# Altium schematic symbol library WE-LF.SchLib: 54 symbols
Pins are listed as number, name and electrical type; pins without a type are passive.

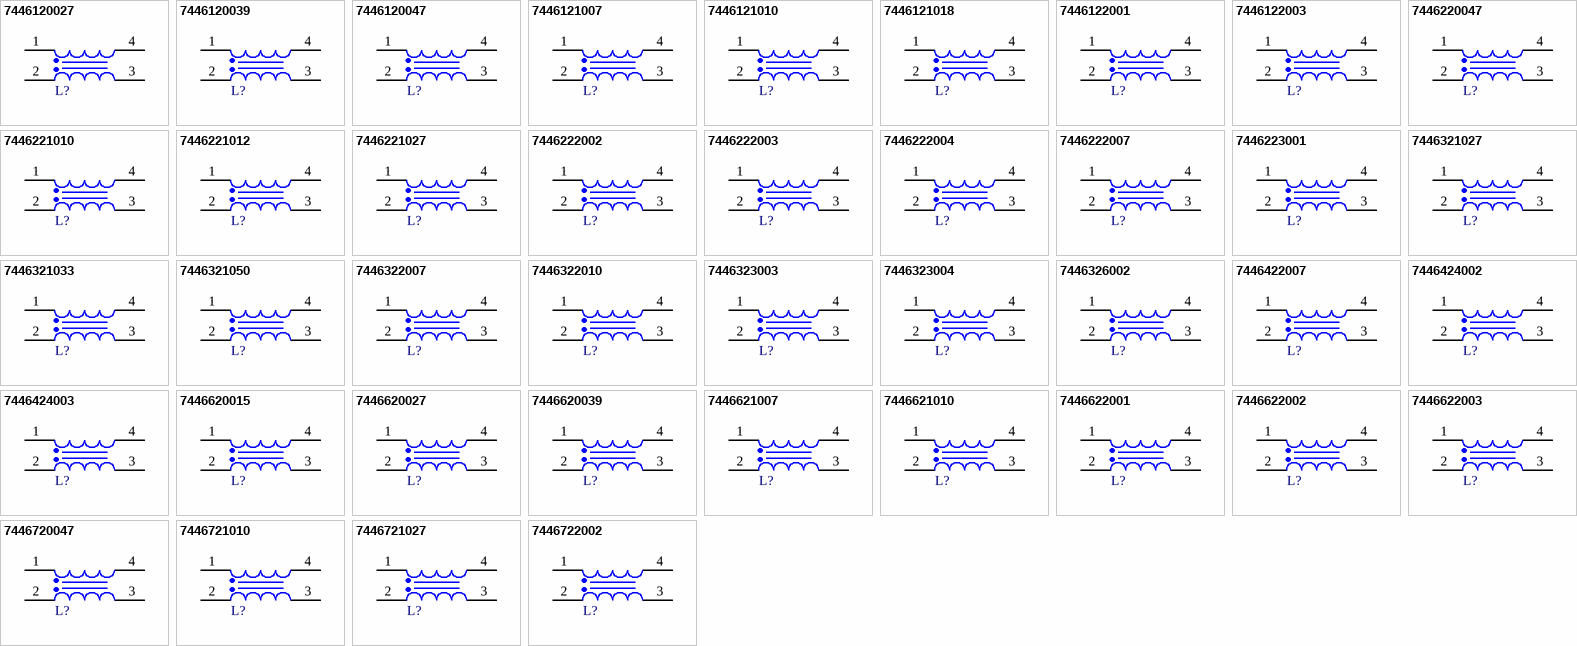
[diagram p0: symbols 7446120027 to 7446722002]

## 7446120027
designator L?, comment 27mH  (value not drawn)
WE-LF THT Common Mode Power Line Choke, Type SV, 27mH, 0.4A, 1.2Ohm; Manufacturer Part Number: 7446120027; Manufacturer: Wurth Elektronik; Case/Size Code: Type SV; Insulation Test Voltage (AC): 1500V; Material: MnZn; Rated Voltage (AC): 250V; Category: Common Mode Chokes; Match Code: WE-LF; ComponentLink1Description: Website Link; ComponentLink1URL: https://www.we-online.com/redexpert/article/7446120027?ad; ComponentLink2Description: Datasheet Link; ComponentLink2URL: https://www.we-online.com/redexpert/spec/7446120027?ad; Mount: Through Hole; Operating Temperature Max: 125°C; Operating Temperature Min: -40°C; Packaging: Tray; Length: 18.5mm; Width: 13.5mm; Height: 20.5mm; DC Resistance Max: 1.2Ohm; Inductance: 27mH; Rated Current: 0.4A
footprint WE-LF_Type SV
pins: 1, 2, 3, 4

## 7446120039
designator L?, comment 39mH  (value not drawn)
WE-LF THT Common Mode Power Line Choke, Type SV, 39mH, 0.4A, 1.7Ohm; Manufacturer Part Number: 7446120039; Manufacturer: Wurth Elektronik; Case/Size Code: Type SV; Insulation Test Voltage (AC): 1500V; Material: MnZn; Rated Voltage (AC): 250V; Category: Common Mode Chokes; Match Code: WE-LF; ComponentLink1Description: Website Link; ComponentLink1URL: https://www.we-online.com/redexpert/article/7446120039?ad; ComponentLink2Description: Datasheet Link; ComponentLink2URL: https://www.we-online.com/redexpert/spec/7446120039?ad; Mount: Through Hole; Operating Temperature Max: 125°C; Operating Temperature Min: -40°C; Packaging: Tray; Length: 18.5mm; Width: 13.5mm; Height: 20.5mm; DC Resistance Max: 1.7Ohm; Inductance: 39mH; Rated Current: 0.4A
footprint WE-LF_Type SV
pins: 1, 2, 3, 4

## 7446120047
designator L?, comment 47mH  (value not drawn)
WE-LF THT Common Mode Power Line Choke, Type SV, 47mH, 0.3A, 2.6Ohm; Manufacturer Part Number: 7446120047; Manufacturer: Wurth Elektronik; Case/Size Code: Type SV; Insulation Test Voltage (AC): 1500V; Material: MnZn; Rated Voltage (AC): 250V; Category: Common Mode Chokes; Match Code: WE-LF; ComponentLink1Description: Website Link; ComponentLink1URL: https://www.we-online.com/redexpert/article/7446120047?ad; ComponentLink2Description: Datasheet Link; ComponentLink2URL: https://www.we-online.com/redexpert/spec/7446120047?ad; Mount: Through Hole; Operating Temperature Max: 125°C; Operating Temperature Min: -40°C; Packaging: Tray; Length: 18.5mm; Width: 13.5mm; Height: 20.5mm; DC Resistance Max: 2.6Ohm; Inductance: 47mH; Rated Current: 0.3A
footprint WE-LF_Type SV
pins: 1, 2, 3, 4

## 7446121007
designator L?, comment 6.8mH  (value not drawn)
WE-LF THT Common Mode Power Line Choke, Type SV, 6.8mH, 1A, 0.3Ohm; Manufacturer Part Number: 7446121007; Manufacturer: Wurth Elektronik; Case/Size Code: Type SV; Insulation Test Voltage (AC): 1500V; Material: MnZn; Rated Voltage (AC): 250V; Category: Common Mode Chokes; Match Code: WE-LF; ComponentLink1Description: Website Link; ComponentLink1URL: https://www.we-online.com/redexpert/article/7446121007?ad; ComponentLink2Description: Datasheet Link; ComponentLink2URL: https://www.we-online.com/redexpert/spec/7446121007?ad; Mount: Through Hole; Operating Temperature Max: 125°C; Operating Temperature Min: -40°C; Packaging: Tray; Length: 18.5mm; Width: 13.5mm; Height: 20.5mm; DC Resistance Max: 0.3Ohm; Inductance: 6.8mH; Rated Current: 1A
footprint WE-LF_Type SV
pins: 1, 2, 3, 4

## 7446121010
designator L?, comment 10mH  (value not drawn)
WE-LF THT Common Mode Power Line Choke, Type SV, 10mH, 0.7A, 0.55Ohm; Manufacturer Part Number: 7446121010; Manufacturer: Wurth Elektronik; Case/Size Code: Type SV; Insulation Test Voltage (AC): 1500V; Material: MnZn; Rated Voltage (AC): 250V; Category: Common Mode Chokes; Match Code: WE-LF; ComponentLink1Description: Website Link; ComponentLink1URL: https://www.we-online.com/redexpert/article/7446121010?ad; ComponentLink2Description: Datasheet Link; ComponentLink2URL: https://www.we-online.com/redexpert/spec/7446121010?ad; Mount: Through Hole; Operating Temperature Max: 125°C; Operating Temperature Min: -40°C; Packaging: Tray; Length: 18.5mm; Width: 13.5mm; Height: 20.5mm; DC Resistance Max: 0.55Ohm; Inductance: 10mH; Rated Current: 0.7A
footprint WE-LF_Type SV
pins: 1, 2, 3, 4

## 7446121018
designator L?, comment 18mH  (value not drawn)
WE-LF THT Common Mode Power Line Choke, Type SV, 18mH, 0.5A, 0.75Ohm; Manufacturer Part Number: 7446121018; Manufacturer: Wurth Elektronik; Case/Size Code: Type SV; Insulation Test Voltage (AC): 1500V; Material: MnZn; Rated Voltage (AC): 250V; Category: Common Mode Chokes; Match Code: WE-LF; ComponentLink1Description: Website Link; ComponentLink1URL: https://www.we-online.com/redexpert/article/7446121018?ad; ComponentLink2Description: Datasheet Link; ComponentLink2URL: https://www.we-online.com/redexpert/spec/7446121018?ad; Mount: Through Hole; Operating Temperature Max: 125°C; Operating Temperature Min: -40°C; Packaging: Tray; Length: 18.5mm; Width: 13.5mm; Height: 20.5mm; DC Resistance Max: 0.75Ohm; Inductance: 18mH; Rated Current: 0.5A
footprint WE-LF_Type SV
pins: 1, 2, 3, 4

## 7446122001
designator L?, comment 1mH  (value not drawn)
WE-LF THT Common Mode Power Line Choke, Type SV, 1mH, 2A, 0.06Ohm; Manufacturer Part Number: 7446122001; Manufacturer: Wurth Elektronik; Case/Size Code: Type SV; Insulation Test Voltage (AC): 1500V; Material: MnZn; Rated Voltage (AC): 250V; Category: Common Mode Chokes; Match Code: WE-LF; ComponentLink1Description: Website Link; ComponentLink1URL: https://www.we-online.com/redexpert/article/7446122001?ad; ComponentLink2Description: Datasheet Link; ComponentLink2URL: https://www.we-online.com/redexpert/spec/7446122001?ad; Mount: Through Hole; Operating Temperature Max: 125°C; Operating Temperature Min: -40°C; Packaging: Tray; Length: 18.5mm; Width: 13.5mm; Height: 20.5mm; DC Resistance Max: 0.06Ohm; Inductance: 1mH; Rated Current: 2A
footprint WE-LF_Type SV
pins: 1, 2, 3, 4

## 7446122003
designator L?, comment 3.3mH  (value not drawn)
WE-LF THT Common Mode Power Line Choke, Type SV, 3.3mH, 1.5A, 0.15Ohm; Manufacturer Part Number: 7446122003; Manufacturer: Wurth Elektronik; Case/Size Code: Type SV; Insulation Test Voltage (AC): 1500V; Material: MnZn; Rated Voltage (AC): 250V; Category: Common Mode Chokes; Match Code: WE-LF; ComponentLink1Description: Website Link; ComponentLink1URL: https://www.we-online.com/redexpert/article/7446122003?ad; ComponentLink2Description: Datasheet Link; ComponentLink2URL: https://www.we-online.com/redexpert/spec/7446122003?ad; Mount: Through Hole; Operating Temperature Max: 125°C; Operating Temperature Min: -40°C; Packaging: Tray; Length: 18.5mm; Width: 13.5mm; Height: 20.5mm; DC Resistance Max: 0.15Ohm; Inductance: 3.3mH; Rated Current: 1.5A
footprint WE-LF_Type SV
pins: 1, 2, 3, 4

## 7446220047
designator L?, comment 47mH  (value not drawn)
WE-LF THT Common Mode Power Line Choke, Type MV, 47mH, 0.4A, 1.6Ohm; Manufacturer Part Number: 7446220047; Manufacturer: Wurth Elektronik; Case/Size Code: Type MV; Insulation Test Voltage (AC): 1500V; Material: MnZn; Rated Voltage (AC): 250V; Category: Common Mode Chokes; Match Code: WE-LF; ComponentLink1Description: Website Link; ComponentLink1URL: https://www.we-online.com/redexpert/article/7446220047?ad; ComponentLink2Description: Datasheet Link; ComponentLink2URL: https://www.we-online.com/redexpert/spec/7446220047?ad; Mount: Through Hole; Operating Temperature Max: 125°C; Operating Temperature Min: -40°C; Packaging: Tray; Length: 23.5mm; Width: 16mm; Height: 25.5mm; DC Resistance Max: 1.6Ohm; Inductance: 47mH; Rated Current: 0.4A
footprint WE-LF_Type MV
pins: 1, 2, 3, 4

## 7446221010
designator L?, comment 10mH  (value not drawn)
WE-LF THT Common Mode Power Line Choke, Type MV, 10mH, 1.3A, 0.25Ohm; Manufacturer Part Number: 7446221010; Manufacturer: Wurth Elektronik; Case/Size Code: Type MV; Insulation Test Voltage (AC): 1500V; Material: MnZn; Rated Voltage (AC): 250V; Category: Common Mode Chokes; Match Code: WE-LF; ComponentLink1Description: Website Link; ComponentLink1URL: https://www.we-online.com/redexpert/article/7446221010?ad; ComponentLink2Description: Datasheet Link; ComponentLink2URL: https://www.we-online.com/redexpert/spec/7446221010?ad; Mount: Through Hole; Operating Temperature Max: 125°C; Operating Temperature Min: -40°C; Packaging: Tray; Length: 23.5mm; Width: 16mm; Height: 25.5mm; DC Resistance Max: 0.25Ohm; Inductance: 10mH; Rated Current: 1.3A
footprint WE-LF_Type MV
pins: 1, 2, 3, 4

## 7446221012
designator L?, comment 12mH  (value not drawn)
WE-LF THT Common Mode Power Line Choke, Type MV, 12mH, 1.2A, 0.28Ohm; Manufacturer Part Number: 7446221012; Manufacturer: Wurth Elektronik; Case/Size Code: Type MV; Insulation Test Voltage (AC): 1500V; Material: MnZn; Rated Voltage (AC): 250V; Category: Common Mode Chokes; Match Code: WE-LF; ComponentLink1Description: Website Link; ComponentLink1URL: https://www.we-online.com/redexpert/article/7446221012?ad; ComponentLink2Description: Datasheet Link; ComponentLink2URL: https://www.we-online.com/redexpert/spec/7446221012?ad; Mount: Through Hole; Operating Temperature Max: 125°C; Operating Temperature Min: -40°C; Packaging: Tray; Length: 23.5mm; Width: 16mm; Height: 25.5mm; DC Resistance Max: 0.28Ohm; Inductance: 12mH; Rated Current: 1.2A
footprint WE-LF_Type MV
pins: 1, 2, 3, 4

## 7446221027
designator L?, comment 27mH  (value not drawn)
WE-LF THT Common Mode Power Line Choke, Type MV, 27mH, 0.6A, 0.7Ohm; Manufacturer Part Number: 7446221027; Manufacturer: Wurth Elektronik; Case/Size Code: Type MV; Insulation Test Voltage (AC): 1500V; Material: MnZn; Rated Voltage (AC): 250V; Category: Common Mode Chokes; Match Code: WE-LF; ComponentLink1Description: Website Link; ComponentLink1URL: https://www.we-online.com/redexpert/article/7446221027?ad; ComponentLink2Description: Datasheet Link; ComponentLink2URL: https://www.we-online.com/redexpert/spec/7446221027?ad; Mount: Through Hole; Operating Temperature Max: 125°C; Operating Temperature Min: -40°C; Packaging: Tray; Length: 23.5mm; Width: 16mm; Height: 25.5mm; DC Resistance Max: 0.7Ohm; Inductance: 27mH; Rated Current: 0.6A
footprint WE-LF_Type MV
pins: 1, 2, 3, 4

## 7446222002
designator L?, comment 2.2mH  (value not drawn)
WE-LF THT Common Mode Power Line Choke, Type MV, 2.2mH, 3A, 0.06Ohm; Manufacturer Part Number: 7446222002; Manufacturer: Wurth Elektronik; Case/Size Code: Type MV; Insulation Test Voltage (AC): 1500V; Material: MnZn; Rated Voltage (AC): 250V; Category: Common Mode Chokes; Match Code: WE-LF; ComponentLink1Description: Website Link; ComponentLink1URL: https://www.we-online.com/redexpert/article/7446222002?ad; ComponentLink2Description: Datasheet Link; ComponentLink2URL: https://www.we-online.com/redexpert/spec/7446222002?ad; Mount: Through Hole; Operating Temperature Max: 125°C; Operating Temperature Min: -40°C; Packaging: Tray; Length: 23.5mm; Width: 16mm; Height: 25.5mm; DC Resistance Max: 0.06Ohm; Inductance: 2.2mH; Rated Current: 3A
footprint WE-LF_Type MV
pins: 1, 2, 3, 4

## 7446222003
designator L?, comment 3.3mH  (value not drawn)
WE-LF THT Common Mode Power Line Choke, Type MV, 3.3mH, 2A, 0.075Ohm; Manufacturer Part Number: 7446222003; Manufacturer: Wurth Elektronik; Case/Size Code: Type MV; Insulation Test Voltage (AC): 1500V; Material: MnZn; Rated Voltage (AC): 250V; Category: Common Mode Chokes; Match Code: WE-LF; ComponentLink1Description: Website Link; ComponentLink1URL: https://www.we-online.com/redexpert/article/7446222003?ad; ComponentLink2Description: Datasheet Link; ComponentLink2URL: https://www.we-online.com/redexpert/spec/7446222003?ad; Mount: Through Hole; Operating Temperature Max: 125°C; Operating Temperature Min: -40°C; Packaging: Tray; Length: 23.5mm; Width: 16mm; Height: 25.5mm; DC Resistance Max: 0.075Ohm; Inductance: 3.3mH; Rated Current: 2A
footprint WE-LF_Type MV
pins: 1, 2, 3, 4

## 7446222004
designator L?, comment 4.2mH  (value not drawn)
WE-LF THT Common Mode Power Line Choke, Type MV, 4.2mH, 2A, 0.12Ohm; Manufacturer Part Number: 7446222004; Manufacturer: Wurth Elektronik; Case/Size Code: Type MV; Insulation Test Voltage (AC): 1500V; Material: MnZn; Rated Voltage (AC): 250V; Category: Common Mode Chokes; Match Code: WE-LF; ComponentLink1Description: Website Link; ComponentLink1URL: https://www.we-online.com/redexpert/article/7446222004?ad; ComponentLink2Description: Datasheet Link; ComponentLink2URL: https://www.we-online.com/redexpert/spec/7446222004?ad; Mount: Through Hole; Operating Temperature Max: 125°C; Operating Temperature Min: -40°C; Packaging: Tray; Length: 23.5mm; Width: 16mm; Height: 25.5mm; DC Resistance Max: 0.12Ohm; Inductance: 4.2mH; Rated Current: 2A
footprint WE-LF_Type MV
pins: 1, 2, 3, 4

## 7446222007
designator L?, comment 6.8mH  (value not drawn)
WE-LF THT Common Mode Power Line Choke, Type MV, 6.8mH, 1.5A, 0.2Ohm; Manufacturer Part Number: 7446222007; Manufacturer: Wurth Elektronik; Case/Size Code: Type MV; Insulation Test Voltage (AC): 1500V; Material: MnZn; Rated Voltage (AC): 250V; Category: Common Mode Chokes; Match Code: WE-LF; ComponentLink1Description: Website Link; ComponentLink1URL: https://www.we-online.com/redexpert/article/7446222007?ad; ComponentLink2Description: Datasheet Link; ComponentLink2URL: https://www.we-online.com/redexpert/spec/7446222007?ad; Mount: Through Hole; Operating Temperature Max: 125°C; Operating Temperature Min: -40°C; Packaging: Tray; Length: 23.5mm; Width: 16mm; Height: 25.5mm; DC Resistance Max: 0.2Ohm; Inductance: 6.8mH; Rated Current: 1.5A
footprint WE-LF_Type MV
pins: 1, 2, 3, 4

## 7446223001
designator L?, comment 1mH  (value not drawn)
WE-LF THT Common Mode Power Line Choke, Type MV, 1mH, 3A, 0.04Ohm; Manufacturer Part Number: 7446223001; Manufacturer: Wurth Elektronik; Case/Size Code: Type MV; Insulation Test Voltage (AC): 1500V; Material: MnZn; Rated Voltage (AC): 250V; Category: Common Mode Chokes; Match Code: WE-LF; ComponentLink1Description: Website Link; ComponentLink1URL: https://www.we-online.com/redexpert/article/7446223001?ad; ComponentLink2Description: Datasheet Link; ComponentLink2URL: https://www.we-online.com/redexpert/spec/7446223001?ad; Mount: Through Hole; Operating Temperature Max: 125°C; Operating Temperature Min: -40°C; Packaging: Tray; Length: 23.5mm; Width: 16mm; Height: 25.5mm; DC Resistance Max: 0.04Ohm; Inductance: 1mH; Rated Current: 3A
footprint WE-LF_Type MV
pins: 1, 2, 3, 4

## 7446321027
designator L?, comment 27mH  (value not drawn)
WE-LF THT Common Mode Power Line Choke, Type LV, 27mH, 1A, 0.64Ohm; Manufacturer Part Number: 7446321027; Manufacturer: Wurth Elektronik; Case/Size Code: Type LV; Insulation Test Voltage (AC): 1500V; Material: MnZn; Rated Voltage (AC): 250V; Category: Common Mode Chokes; Match Code: WE-LF; ComponentLink1Description: Website Link; ComponentLink1URL: https://www.we-online.com/redexpert/article/7446321027?ad; ComponentLink2Description: Datasheet Link; ComponentLink2URL: https://www.we-online.com/redexpert/spec/7446321027?ad; Mount: Through Hole; Operating Temperature Max: 125°C; Operating Temperature Min: -40°C; Packaging: Tray; Length: 26.5mm; Width: 18.48mm; Height: 30.5mm; DC Resistance Max: 0.64Ohm; Inductance: 27mH; Rated Current: 1A
footprint WE-LF_Type LV
pins: 1, 2, 3, 4

## 7446321033
designator L?, comment 33mH  (value not drawn)
WE-LF THT Common Mode Power Line Choke, Type LV, 33mH, 0.8A, 0.85Ohm; Manufacturer Part Number: 7446321033; Manufacturer: Wurth Elektronik; Case/Size Code: Type LV; Insulation Test Voltage (AC): 1500V; Material: MnZn; Rated Voltage (AC): 250V; Category: Common Mode Chokes; Match Code: WE-LF; ComponentLink1Description: Website Link; ComponentLink1URL: https://www.we-online.com/redexpert/article/7446321033?ad; ComponentLink2Description: Datasheet Link; ComponentLink2URL: https://www.we-online.com/redexpert/spec/7446321033?ad; Mount: Through Hole; Operating Temperature Max: 125°C; Operating Temperature Min: -40°C; Packaging: Tray; Length: 26.5mm; Width: 18.48mm; Height: 30.5mm; DC Resistance Max: 0.85Ohm; Inductance: 33mH; Rated Current: 0.8A
footprint WE-LF_Type LV
pins: 1, 2, 3, 4

## 7446321050
designator L?, comment 50mH  (value not drawn)
WE-LF THT Common Mode Power Line Choke, Type LV, 50mH, 0.6A, 1.2Ohm; Manufacturer Part Number: 7446321050; Manufacturer: Wurth Elektronik; Case/Size Code: Type LV; Insulation Test Voltage (AC): 1500V; Material: MnZn; Rated Voltage (AC): 250V; Category: Common Mode Chokes; Match Code: WE-LF; ComponentLink1Description: Website Link; ComponentLink1URL: https://www.we-online.com/redexpert/article/7446321050?ad; ComponentLink2Description: Datasheet Link; ComponentLink2URL: https://www.we-online.com/redexpert/spec/7446321050?ad; Mount: Through Hole; Operating Temperature Max: 125°C; Operating Temperature Min: -40°C; Packaging: Tray; Length: 26.5mm; Width: 18.48mm; Height: 30.5mm; DC Resistance Max: 1.2Ohm; Inductance: 50mH; Rated Current: 0.6A
footprint WE-LF_Type LV
pins: 1, 2, 3, 4

## 7446322007
designator L?, comment 6.8mH  (value not drawn)
WE-LF THT Common Mode Power Line Choke, Type LV, 6.8mH, 1.9A, 0.16Ohm; Manufacturer Part Number: 7446322007; Manufacturer: Wurth Elektronik; Case/Size Code: Type LV; Insulation Test Voltage (AC): 1500V; Material: MnZn; Rated Voltage (AC): 250V; Category: Common Mode Chokes; Match Code: WE-LF; ComponentLink1Description: Website Link; ComponentLink1URL: https://www.we-online.com/redexpert/article/7446322007?ad; ComponentLink2Description: Datasheet Link; ComponentLink2URL: https://www.we-online.com/redexpert/spec/7446322007?ad; Mount: Through Hole; Operating Temperature Max: 125°C; Operating Temperature Min: -40°C; Packaging: Tray; Length: 26.5mm; Width: 18.48mm; Height: 30.5mm; DC Resistance Max: 0.16Ohm; Inductance: 6.8mH; Rated Current: 1.9A
footprint WE-LF_Type LV
pins: 1, 2, 3, 4

## 7446322010
designator L?, comment 10mH  (value not drawn)
WE-LF THT Common Mode Power Line Choke, Type LV, 10mH, 1.9A, 0.18Ohm; Manufacturer Part Number: 7446322010; Manufacturer: Wurth Elektronik; Case/Size Code: Type LV; Insulation Test Voltage (AC): 1500V; Material: MnZn; Rated Voltage (AC): 250V; Category: Common Mode Chokes; Match Code: WE-LF; ComponentLink1Description: Website Link; ComponentLink1URL: https://www.we-online.com/redexpert/article/7446322010?ad; ComponentLink2Description: Datasheet Link; ComponentLink2URL: https://www.we-online.com/redexpert/spec/7446322010?ad; Mount: Through Hole; Operating Temperature Max: 125°C; Operating Temperature Min: -40°C; Packaging: Tray; Length: 26.5mm; Width: 18.48mm; Height: 30.5mm; DC Resistance Max: 0.18Ohm; Inductance: 10mH; Rated Current: 1.9A
footprint WE-LF_Type LV
pins: 1, 2, 3, 4

## 7446323003
designator L?, comment 2.7mH  (value not drawn)
WE-LF THT Common Mode Power Line Choke, Type LV, 2.7mH, 3A, 0.06Ohm; Manufacturer Part Number: 7446323003; Manufacturer: Wurth Elektronik; Case/Size Code: Type LV; Insulation Test Voltage (AC): 1500V; Material: MnZn; Rated Voltage (AC): 250V; Category: Common Mode Chokes; Match Code: WE-LF; ComponentLink1Description: Website Link; ComponentLink1URL: https://www.we-online.com/redexpert/article/7446323003?ad; ComponentLink2Description: Datasheet Link; ComponentLink2URL: https://www.we-online.com/redexpert/spec/7446323003?ad; Mount: Through Hole; Operating Temperature Max: 125°C; Operating Temperature Min: -40°C; Packaging: Tray; Length: 26.5mm; Width: 18.48mm; Height: 30.5mm; DC Resistance Max: 0.06Ohm; Inductance: 2.7mH; Rated Current: 3A
footprint WE-LF_Type LV
pins: 1, 2, 3, 4

## 7446323004
designator L?, comment 4mH  (value not drawn)
WE-LF THT Common Mode Power Line Choke, Type LV, 4mH, 3A, 0.07Ohm; Manufacturer Part Number: 7446323004; Manufacturer: Wurth Elektronik; Case/Size Code: Type LV; Insulation Test Voltage (AC): 1500V; Material: MnZn; Rated Voltage (AC): 250V; Category: Common Mode Chokes; Match Code: WE-LF; ComponentLink1Description: Website Link; ComponentLink1URL: https://www.we-online.com/redexpert/article/7446323004?ad; ComponentLink2Description: Datasheet Link; ComponentLink2URL: https://www.we-online.com/redexpert/spec/7446323004?ad; Mount: Through Hole; Operating Temperature Max: 125°C; Operating Temperature Min: -40°C; Packaging: Tray; Length: 26.5mm; Width: 18.48mm; Height: 30.5mm; DC Resistance Max: 0.07Ohm; Inductance: 4mH; Rated Current: 3A
footprint WE-LF_Type LV
pins: 1, 2, 3, 4

## 7446326002
designator L?, comment 1.8mH  (value not drawn)
WE-LF THT Common Mode Power Line Choke, Type LV, 1.8mH, 6A, 0.023Ohm; Manufacturer Part Number: 7446326002; Manufacturer: Wurth Elektronik; Case/Size Code: Type LV; Insulation Test Voltage (AC): 1500V; Material: MnZn; Rated Voltage (AC): 250V; Category: Common Mode Chokes; Match Code: WE-LF; ComponentLink1Description: Website Link; ComponentLink1URL: https://www.we-online.com/redexpert/article/7446326002?ad; ComponentLink2Description: Datasheet Link; ComponentLink2URL: https://www.we-online.com/redexpert/spec/7446326002?ad; Mount: Through Hole; Operating Temperature Max: 125°C; Operating Temperature Min: -40°C; Packaging: Tray; Length: 26.5mm; Width: 18.48mm; Height: 30.5mm; DC Resistance Max: 0.023Ohm; Inductance: 1.8mH; Rated Current: 6A
footprint WE-LF_Type LV
pins: 1, 2, 3, 4

## 7446422007
designator L?, comment 6.8mH  (value not drawn)
WE-LF THT Common Mode Power Line Choke, Type XV, 6.8mH, 2.5A, 0.12Ohm; Manufacturer Part Number: 7446422007; Manufacturer: Wurth Elektronik; Case/Size Code: Type XV; Insulation Test Voltage (AC): 1500V; Material: MnZn; Rated Voltage (AC): 250V; Category: Common Mode Chokes; Match Code: WE-LF; ComponentLink1Description: Website Link; ComponentLink1URL: https://www.we-online.com/redexpert/article/7446422007?ad; ComponentLink2Description: Datasheet Link; ComponentLink2URL: https://www.we-online.com/redexpert/spec/7446422007?ad; Mount: Through Hole; Operating Temperature Max: 125°C; Operating Temperature Min: -40°C; Packaging: Tray; Length: 32.5mm; Width: 21.5mm; Height: 35.5mm; DC Resistance Max: 0.12Ohm; Inductance: 6.8mH; Rated Current: 2.5A
footprint WE-LF_Type XV
pins: 1, 2, 3, 4

## 7446424002
designator L?, comment 2.2mH  (value not drawn)
WE-LF THT Common Mode Power Line Choke, Type XV, 2.2mH, 4.3A, 0.038Ohm; Manufacturer Part Number: 7446424002; Manufacturer: Wurth Elektronik; Case/Size Code: Type XV; Insulation Test Voltage (AC): 1500V; Material: MnZn; Rated Voltage (AC): 250V; Category: Common Mode Chokes; Match Code: WE-LF; ComponentLink1Description: Website Link; ComponentLink1URL: https://www.we-online.com/redexpert/article/7446424002?ad; ComponentLink2Description: Datasheet Link; ComponentLink2URL: https://www.we-online.com/redexpert/spec/7446424002?ad; Mount: Through Hole; Operating Temperature Max: 125°C; Operating Temperature Min: -40°C; Packaging: Tray; Length: 32.5mm; Width: 21.5mm; Height: 35.5mm; DC Resistance Max: 0.038Ohm; Inductance: 2.2mH; Rated Current: 4.3A
footprint WE-LF_Type XV
pins: 1, 2, 3, 4

## 7446424003
designator L?, comment 3.3mH  (value not drawn)
WE-LF THT Common Mode Power Line Choke, Type XV, 3.3mH, 4A, 0.065Ohm; Manufacturer Part Number: 7446424003; Manufacturer: Wurth Elektronik; Case/Size Code: Type XV; Insulation Test Voltage (AC): 1500V; Material: MnZn; Rated Voltage (AC): 250V; Category: Common Mode Chokes; Match Code: WE-LF; ComponentLink1Description: Website Link; ComponentLink1URL: https://www.we-online.com/redexpert/article/7446424003?ad; ComponentLink2Description: Datasheet Link; ComponentLink2URL: https://www.we-online.com/redexpert/spec/7446424003?ad; Mount: Through Hole; Operating Temperature Max: 125°C; Operating Temperature Min: -40°C; Packaging: Tray; Length: 32.5mm; Width: 21.5mm; Height: 35.5mm; DC Resistance Max: 0.065Ohm; Inductance: 3.3mH; Rated Current: 4A
footprint WE-LF_Type XV
pins: 1, 2, 3, 4

## 7446620015
designator L?, comment 15mH  (value not drawn)
WE-LF THT Common Mode Power Line Choke, Type SH, 15mH, 0.5A, 0.83Ohm; Manufacturer Part Number: 7446620015; Manufacturer: Wurth Elektronik; Case/Size Code: Type SH; Insulation Test Voltage (AC): 1500V; Material: MnZn; Rated Voltage (AC): 250V; Category: Common Mode Chokes; Match Code: WE-LF; ComponentLink1Description: Website Link; ComponentLink1URL: https://www.we-online.com/redexpert/article/7446620015?ad; ComponentLink2Description: Datasheet Link; ComponentLink2URL: https://www.we-online.com/redexpert/spec/7446620015?ad; Mount: Through Hole; Operating Temperature Max: 125°C; Operating Temperature Min: -40°C; Packaging: Tray; Length: 18mm; Width: 18mm; Height: 13mm; DC Resistance Max: 0.83Ohm; Inductance: 15mH; Rated Current: 0.5A
footprint WE-LF_Type SH
pins: 1, 2, 3, 4

## 7446620027
designator L?, comment 27mH  (value not drawn)
WE-LF THT Common Mode Power Line Choke, Type SH, 27mH, 0.4A, 1.2Ohm; Manufacturer Part Number: 7446620027; Manufacturer: Wurth Elektronik; Case/Size Code: Type SH; Insulation Test Voltage (AC): 1500V; Material: MnZn; Rated Voltage (AC): 250V; Category: Common Mode Chokes; Match Code: WE-LF; ComponentLink1Description: Website Link; ComponentLink1URL: https://www.we-online.com/redexpert/article/7446620027?ad; ComponentLink2Description: Datasheet Link; ComponentLink2URL: https://www.we-online.com/redexpert/spec/7446620027?ad; Mount: Through Hole; Operating Temperature Max: 125°C; Operating Temperature Min: -40°C; Packaging: Tray; Length: 18mm; Width: 18mm; Height: 13mm; DC Resistance Max: 1.2Ohm; Inductance: 27mH; Rated Current: 0.4A
footprint WE-LF_Type SH
pins: 1, 2, 3, 4

## 7446620039
designator L?, comment 39mH  (value not drawn)
WE-LF THT Common Mode Power Line Choke, Type SH, 39mH, 0.4A, 1.7Ohm; Manufacturer Part Number: 7446620039; Manufacturer: Wurth Elektronik; Case/Size Code: Type SH; Insulation Test Voltage (AC): 1500V; Material: MnZn; Rated Voltage (AC): 250V; Category: Common Mode Chokes; Match Code: WE-LF; ComponentLink1Description: Website Link; ComponentLink1URL: https://www.we-online.com/redexpert/article/7446620039?ad; ComponentLink2Description: Datasheet Link; ComponentLink2URL: https://www.we-online.com/redexpert/spec/7446620039?ad; Mount: Through Hole; Operating Temperature Max: 125°C; Operating Temperature Min: -40°C; Packaging: Tray; Length: 18mm; Width: 18mm; Height: 13mm; DC Resistance Max: 1.7Ohm; Inductance: 39mH; Rated Current: 0.4A
footprint WE-LF_Type SH
pins: 1, 2, 3, 4

## 7446621007
designator L?, comment 6.8mH  (value not drawn)
WE-LF THT Common Mode Power Line Choke, Type SH, 6.8mH, 1A, 0.3Ohm; Manufacturer Part Number: 7446621007; Manufacturer: Wurth Elektronik; Case/Size Code: Type SH; Insulation Test Voltage (AC): 1500V; Material: MnZn; Rated Voltage (AC): 250V; Category: Common Mode Chokes; Match Code: WE-LF; ComponentLink1Description: Website Link; ComponentLink1URL: https://www.we-online.com/redexpert/article/7446621007?ad; ComponentLink2Description: Datasheet Link; ComponentLink2URL: https://www.we-online.com/redexpert/spec/7446621007?ad; Mount: Through Hole; Operating Temperature Max: 125°C; Operating Temperature Min: -40°C; Packaging: Tray; Length: 18mm; Width: 18mm; Height: 13mm; DC Resistance Max: 0.3Ohm; Inductance: 6.8mH; Rated Current: 1A
footprint WE-LF_Type SH
pins: 1, 2, 3, 4

## 7446621010
designator L?, comment 10mH  (value not drawn)
WE-LF THT Common Mode Power Line Choke, Type SH, 10mH, 0.7A, 0.55Ohm; Manufacturer Part Number: 7446621010; Manufacturer: Wurth Elektronik; Case/Size Code: Type SH; Insulation Test Voltage (AC): 1500V; Material: MnZn; Rated Voltage (AC): 250V; Category: Common Mode Chokes; Match Code: WE-LF; ComponentLink1Description: Website Link; ComponentLink1URL: https://www.we-online.com/redexpert/article/7446621010?ad; ComponentLink2Description: Datasheet Link; ComponentLink2URL: https://www.we-online.com/redexpert/spec/7446621010?ad; Mount: Through Hole; Operating Temperature Max: 125°C; Operating Temperature Min: -40°C; Packaging: Tray; Length: 18mm; Width: 18mm; Height: 13mm; DC Resistance Max: 0.55Ohm; Inductance: 10mH; Rated Current: 0.7A
footprint WE-LF_Type SH
pins: 1, 2, 3, 4

## 7446622001
designator L?, comment 1mH  (value not drawn)
WE-LF THT Common Mode Power Line Choke, Type SH, 1mH, 2A, 0.06Ohm; Manufacturer Part Number: 7446622001; Manufacturer: Wurth Elektronik; Case/Size Code: Type SH; Insulation Test Voltage (AC): 1500V; Material: MnZn; Rated Voltage (AC): 250V; Category: Common Mode Chokes; Match Code: WE-LF; ComponentLink1Description: Website Link; ComponentLink1URL: https://www.we-online.com/redexpert/article/7446622001?ad; ComponentLink2Description: Datasheet Link; ComponentLink2URL: https://www.we-online.com/redexpert/spec/7446622001?ad; Mount: Through Hole; Operating Temperature Max: 125°C; Operating Temperature Min: -40°C; Packaging: Tray; Length: 18mm; Width: 18mm; Height: 13mm; DC Resistance Max: 0.06Ohm; Inductance: 1mH; Rated Current: 2A
footprint WE-LF_Type SH
pins: 1, 2, 3, 4

## 7446622002
designator L?, comment 2.2mH  (value not drawn)
WE-LF THT Common Mode Power Line Choke, Type SH, 2.2mH, 2A, 0.1Ohm; Manufacturer Part Number: 7446622002; Manufacturer: Wurth Elektronik; Case/Size Code: Type SH; Insulation Test Voltage (AC): 1500V; Material: MnZn; Rated Voltage (AC): 250V; Category: Common Mode Chokes; Match Code: WE-LF; ComponentLink1Description: Website Link; ComponentLink1URL: https://www.we-online.com/redexpert/article/7446622002?ad; ComponentLink2Description: Datasheet Link; ComponentLink2URL: https://www.we-online.com/redexpert/spec/7446622002?ad; Mount: Through Hole; Operating Temperature Max: 125°C; Operating Temperature Min: -40°C; Packaging: Tray; Length: 18mm; Width: 18mm; Height: 13mm; DC Resistance Max: 0.1Ohm; Inductance: 2.2mH; Rated Current: 2A
footprint WE-LF_Type SH
pins: 1, 2, 3, 4

## 7446622003
designator L?, comment 3.3mH  (value not drawn)
WE-LF THT Common Mode Power Line Choke, Type SH, 3.3mH, 1.5A, 0.15Ohm; Manufacturer Part Number: 7446622003; Manufacturer: Wurth Elektronik; Case/Size Code: Type SH; Insulation Test Voltage (AC): 1500V; Material: MnZn; Rated Voltage (AC): 250V; Category: Common Mode Chokes; Match Code: WE-LF; ComponentLink1Description: Website Link; ComponentLink1URL: https://www.we-online.com/redexpert/article/7446622003?ad; ComponentLink2Description: Datasheet Link; ComponentLink2URL: https://www.we-online.com/redexpert/spec/7446622003?ad; Mount: Through Hole; Operating Temperature Max: 125°C; Operating Temperature Min: -40°C; Packaging: Tray; Length: 18mm; Width: 18mm; Height: 13mm; DC Resistance Max: 0.15Ohm; Inductance: 3.3mH; Rated Current: 1.5A
footprint WE-LF_Type SH
pins: 1, 2, 3, 4

## 7446720047
designator L?, comment 47mH  (value not drawn)
WE-LF THT Common Mode Power Line Choke, Type MH, 47mH, 0.4A, 2Ohm; Manufacturer Part Number: 7446720047; Manufacturer: Wurth Elektronik; Case/Size Code: Type MH; Insulation Test Voltage (AC): 1500V; Material: MnZn; Rated Voltage (AC): 250V; Category: Common Mode Chokes; Match Code: WE-LF; ComponentLink1Description: Website Link; ComponentLink1URL: https://www.we-online.com/redexpert/article/7446720047?ad; ComponentLink2Description: Datasheet Link; ComponentLink2URL: https://www.we-online.com/redexpert/spec/7446720047?ad; Mount: Through Hole; Operating Temperature Max: 125°C; Operating Temperature Min: -40°C; Packaging: Tray; Length: 23mm; Width: 23mm; Height: 14.5mm; DC Resistance Max: 2Ohm; Inductance: 47mH; Rated Current: 0.4A
footprint WE-LF_Type MH
pins: 1, 2, 3, 4

## 7446721010
designator L?, comment 10mH  (value not drawn)
WE-LF THT Common Mode Power Line Choke, Type MH, 10mH, 1.3A, 0.25Ohm; Manufacturer Part Number: 7446721010; Manufacturer: Wurth Elektronik; Case/Size Code: Type MH; Insulation Test Voltage (AC): 1500V; Material: MnZn; Rated Voltage (AC): 250V; Category: Common Mode Chokes; Match Code: WE-LF; ComponentLink1Description: Website Link; ComponentLink1URL: https://www.we-online.com/redexpert/article/7446721010?ad; ComponentLink2Description: Datasheet Link; ComponentLink2URL: https://www.we-online.com/redexpert/spec/7446721010?ad; Mount: Through Hole; Operating Temperature Max: 125°C; Operating Temperature Min: -40°C; Packaging: Tray; Length: 23mm; Width: 23mm; Height: 14.5mm; DC Resistance Max: 0.25Ohm; Inductance: 10mH; Rated Current: 1.3A
footprint WE-LF_Type MH
pins: 1, 2, 3, 4

## 7446721027
designator L?, comment 27mH  (value not drawn)
WE-LF THT Common Mode Power Line Choke, Type MH, 27mH, 0.6A, 0.7Ohm; Manufacturer Part Number: 7446721027; Manufacturer: Wurth Elektronik; Case/Size Code: Type MH; Insulation Test Voltage (AC): 1500V; Material: MnZn; Rated Voltage (AC): 250V; Category: Common Mode Chokes; Match Code: WE-LF; ComponentLink1Description: Website Link; ComponentLink1URL: https://www.we-online.com/redexpert/article/7446721027?ad; ComponentLink2Description: Datasheet Link; ComponentLink2URL: https://www.we-online.com/redexpert/spec/7446721027?ad; Mount: Through Hole; Operating Temperature Max: 125°C; Operating Temperature Min: -40°C; Packaging: Tray; Length: 23mm; Width: 23mm; Height: 14.5mm; DC Resistance Max: 0.7Ohm; Inductance: 27mH; Rated Current: 0.6A
footprint WE-LF_Type MH
pins: 1, 2, 3, 4

## 7446722002
designator L?, comment 2.2mH  (value not drawn)
WE-LF THT Common Mode Power Line Choke, Type MH, 2.2mH, 2A, 0.06Ohm; Manufacturer Part Number: 7446722002; Manufacturer: Wurth Elektronik; Case/Size Code: Type MH; Insulation Test Voltage (AC): 1500V; Material: MnZn; Rated Voltage (AC): 250V; Category: Common Mode Chokes; Match Code: WE-LF; ComponentLink1Description: Website Link; ComponentLink1URL: https://www.we-online.com/redexpert/article/7446722002?ad; ComponentLink2Description: Datasheet Link; ComponentLink2URL: https://www.we-online.com/redexpert/spec/7446722002?ad; Mount: Through Hole; Operating Temperature Max: 125°C; Operating Temperature Min: -40°C; Packaging: Tray; Length: 23mm; Width: 23mm; Height: 14.5mm; DC Resistance Max: 0.06Ohm; Inductance: 2.2mH; Rated Current: 2A
footprint WE-LF_Type MH
pins: 1, 2, 3, 4

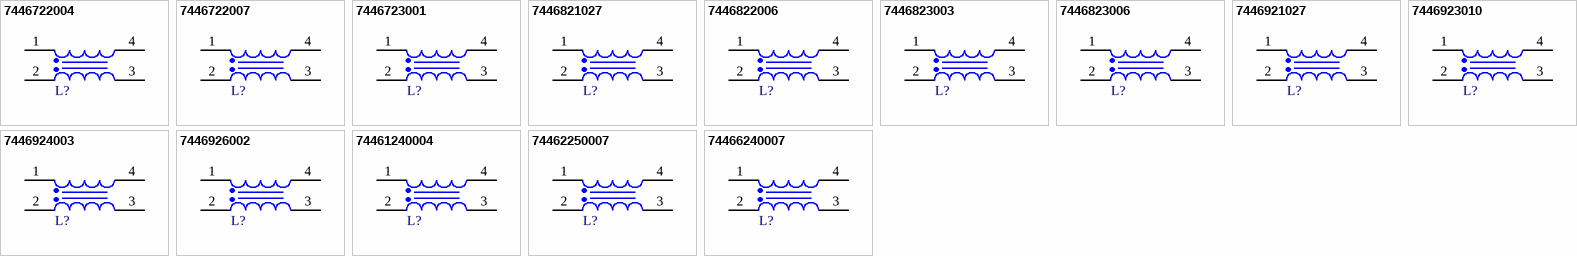
[diagram p1: symbols 7446722004 to 74466240007]

## 7446722004
designator L?, comment 4.2mH  (value not drawn)
WE-LF THT Common Mode Power Line Choke, Type MH, 4.2mH, 1.9A, 0.12Ohm; Manufacturer Part Number: 7446722004; Manufacturer: Wurth Elektronik; Case/Size Code: Type MH; Insulation Test Voltage (AC): 1500V; Material: MnZn; Rated Voltage (AC): 250V; Category: Common Mode Chokes; Match Code: WE-LF; ComponentLink1Description: Website Link; ComponentLink1URL: https://www.we-online.com/redexpert/article/7446722004?ad; ComponentLink2Description: Datasheet Link; ComponentLink2URL: https://www.we-online.com/redexpert/spec/7446722004?ad; Mount: Through Hole; Operating Temperature Max: 125°C; Operating Temperature Min: -40°C; Packaging: Tray; Length: 23mm; Width: 23mm; Height: 14.5mm; DC Resistance Max: 0.12Ohm; Inductance: 4.2mH; Rated Current: 1.9A
footprint WE-LF_Type MH
pins: 1, 2, 3, 4

## 7446722007
designator L?, comment 6.8mH  (value not drawn)
WE-LF THT Common Mode Power Line Choke, Type MH, 6.8mH, 1.5A, 0.2Ohm; Manufacturer Part Number: 7446722007; Manufacturer: Wurth Elektronik; Case/Size Code: Type MH; Insulation Test Voltage (AC): 1500V; Material: MnZn; Rated Voltage (AC): 250V; Category: Common Mode Chokes; Match Code: WE-LF; ComponentLink1Description: Website Link; ComponentLink1URL: https://www.we-online.com/redexpert/article/7446722007?ad; ComponentLink2Description: Datasheet Link; ComponentLink2URL: https://www.we-online.com/redexpert/spec/7446722007?ad; Mount: Through Hole; Operating Temperature Max: 125°C; Operating Temperature Min: -40°C; Packaging: Tray; Length: 23mm; Width: 23mm; Height: 14.5mm; DC Resistance Max: 0.2Ohm; Inductance: 6.8mH; Rated Current: 1.5A
footprint WE-LF_Type MH
pins: 1, 2, 3, 4

## 7446723001
designator L?, comment 1.2mH  (value not drawn)
WE-LF THT Common Mode Power Line Choke, Type MH, 1.2mH, 3A, 0.04Ohm; Manufacturer Part Number: 7446723001; Manufacturer: Wurth Elektronik; Case/Size Code: Type MH; Insulation Test Voltage (AC): 1500V; Material: MnZn; Rated Voltage (AC): 250V; Category: Common Mode Chokes; Match Code: WE-LF; ComponentLink1Description: Website Link; ComponentLink1URL: https://www.we-online.com/redexpert/article/7446723001?ad; ComponentLink2Description: Datasheet Link; ComponentLink2URL: https://www.we-online.com/redexpert/spec/7446723001?ad; Mount: Through Hole; Operating Temperature Max: 125°C; Operating Temperature Min: -40°C; Packaging: Tray; Length: 23mm; Width: 23mm; Height: 14.5mm; DC Resistance Max: 0.04Ohm; Inductance: 1.2mH; Rated Current: 3A
footprint WE-LF_Type MH
pins: 1, 2, 3, 4

## 7446821027
designator L?, comment 27mH  (value not drawn)
WE-LF THT Common Mode Power Line Choke, Type LH, 27mH, 1A, 0.64Ohm; Manufacturer Part Number: 7446821027; Manufacturer: Wurth Elektronik; Case/Size Code: Type LH; Insulation Test Voltage (AC): 1500V; Material: MnZn; Rated Voltage (AC): 250V; Category: Common Mode Chokes; Match Code: WE-LF; ComponentLink1Description: Website Link; ComponentLink1URL: https://www.we-online.com/redexpert/article/7446821027?ad; ComponentLink2Description: Datasheet Link; ComponentLink2URL: https://www.we-online.com/redexpert/spec/7446821027?ad; Mount: Through Hole; Operating Temperature Max: 125°C; Operating Temperature Min: -40°C; Packaging: Tray; Length: 28.5mm; Width: 28.5mm; Height: 17mm; DC Resistance Max: 0.64Ohm; Inductance: 27mH; Rated Current: 1A
footprint WE-LF_Type LH
pins: 1, 2, 3, 4

## 7446822006
designator L?, comment 5.6mH  (value not drawn)
WE-LF THT Common Mode Power Line Choke, Type LH, 5.6mH, 2A, 0.16Ohm; Manufacturer Part Number: 7446822006; Manufacturer: Wurth Elektronik; Case/Size Code: Type LH; Insulation Test Voltage (AC): 1500V; Material: MnZn; Rated Voltage (AC): 250V; Category: Common Mode Chokes; Match Code: WE-LF; ComponentLink1Description: Website Link; ComponentLink1URL: https://www.we-online.com/redexpert/article/7446822006?ad; ComponentLink2Description: Datasheet Link; ComponentLink2URL: https://www.we-online.com/redexpert/spec/7446822006?ad; Mount: Through Hole; Operating Temperature Max: 125°C; Operating Temperature Min: -40°C; Packaging: Tray; Length: 28.5mm; Width: 28.5mm; Height: 17mm; DC Resistance Max: 0.16Ohm; Inductance: 5.6mH; Rated Current: 2A
footprint WE-LF_Type LH
pins: 1, 2, 3, 4

## 7446823003
designator L?, comment 2.7mH  (value not drawn)
WE-LF THT Common Mode Power Line Choke, Type LH, 2.7mH, 3A, 0.06Ohm; Manufacturer Part Number: 7446823003; Manufacturer: Wurth Elektronik; Case/Size Code: Type LH; Insulation Test Voltage (AC): 1500V; Material: MnZn; Rated Voltage (AC): 250V; Category: Common Mode Chokes; Match Code: WE-LF; ComponentLink1Description: Website Link; ComponentLink1URL: https://www.we-online.com/redexpert/article/7446823003?ad; ComponentLink2Description: Datasheet Link; ComponentLink2URL: https://www.we-online.com/redexpert/spec/7446823003?ad; Mount: Through Hole; Operating Temperature Max: 125°C; Operating Temperature Min: -40°C; Packaging: Tray; Length: 28.5mm; Width: 28.5mm; Height: 17mm; DC Resistance Max: 0.06Ohm; Inductance: 2.7mH; Rated Current: 3A
footprint WE-LF_Type LH
pins: 1, 2, 3, 4

## 7446823006
designator L?, comment 5.6mH  (value not drawn)
WE-LF THT Common Mode Power Line Choke, Type LH, 5.6mH, 2.4A, 0.1Ohm; Manufacturer Part Number: 7446823006; Manufacturer: Wurth Elektronik; Case/Size Code: Type LH; Insulation Test Voltage (AC): 1500V; Material: MnZn; Rated Voltage (AC): 250V; Category: Common Mode Chokes; Match Code: WE-LF; ComponentLink1Description: Website Link; ComponentLink1URL: https://www.we-online.com/redexpert/article/7446823006?ad; ComponentLink2Description: Datasheet Link; ComponentLink2URL: https://www.we-online.com/redexpert/spec/7446823006?ad; Mount: Through Hole; Operating Temperature Max: 125°C; Operating Temperature Min: -40°C; Packaging: Tray; Length: 28.5mm; Width: 28.5mm; Height: 17mm; DC Resistance Max: 0.1Ohm; Inductance: 5.6mH; Rated Current: 2.4A
footprint WE-LF_Type LH
pins: 1, 2, 3, 4

## 7446921027
designator L?, comment 27mH  (value not drawn)
WE-LF THT Common Mode Power Line Choke, Type XH, 27mH, 1.2A, 0.4Ohm; Manufacturer Part Number: 7446921027; Manufacturer: Wurth Elektronik; Case/Size Code: Type XH; Insulation Test Voltage (AC): 1500V; Material: MnZn; Rated Voltage (AC): 250V; Category: Common Mode Chokes; Match Code: WE-LF; ComponentLink1Description: Website Link; ComponentLink1URL: https://www.we-online.com/redexpert/article/7446921027?ad; ComponentLink2Description: Datasheet Link; ComponentLink2URL: https://www.we-online.com/redexpert/spec/7446921027?ad; Mount: Through Hole; Operating Temperature Max: 125°C; Operating Temperature Min: -40°C; Packaging: Tray; Length: 33.5mm; Width: 33.5mm; Height: 20mm; DC Resistance Max: 0.4Ohm; Inductance: 27mH; Rated Current: 1.2A
footprint WE-LF_Type XH
pins: 1, 2, 3, 4

## 7446923010
designator L?, comment 10mH  (value not drawn)
WE-LF THT Common Mode Power Line Choke, Type XH, 10mH, 3A, 0.155Ohm; Manufacturer Part Number: 7446923010; Manufacturer: Wurth Elektronik; Case/Size Code: Type XH; Insulation Test Voltage (AC): 1500V; Material: MnZn; Rated Voltage (AC): 250V; Category: Common Mode Chokes; Match Code: WE-LF; ComponentLink1Description: Website Link; ComponentLink1URL: https://www.we-online.com/redexpert/article/7446923010?ad; ComponentLink2Description: Datasheet Link; ComponentLink2URL: https://www.we-online.com/redexpert/spec/7446923010?ad; Mount: Through Hole; Operating Temperature Max: 125°C; Operating Temperature Min: -40°C; Packaging: Tray; Length: 33.5mm; Width: 33.5mm; Height: 20mm; DC Resistance Max: 0.155Ohm; Inductance: 10mH; Rated Current: 3A
footprint WE-LF_Type XH
pins: 1, 2, 3, 4

## 7446924003
designator L?, comment 3.3mH  (value not drawn)
WE-LF THT Common Mode Power Line Choke, Type XH, 3.3mH, 4A, 0.065Ohm; Manufacturer Part Number: 7446924003; Manufacturer: Wurth Elektronik; Case/Size Code: Type XH; Insulation Test Voltage (AC): 1500V; Material: MnZn; Rated Voltage (AC): 250V; Category: Common Mode Chokes; Match Code: WE-LF; ComponentLink1Description: Website Link; ComponentLink1URL: https://www.we-online.com/redexpert/article/7446924003?ad; ComponentLink2Description: Datasheet Link; ComponentLink2URL: https://www.we-online.com/redexpert/spec/7446924003?ad; Mount: Through Hole; Operating Temperature Max: 125°C; Operating Temperature Min: -40°C; Packaging: Tray; Length: 33.5mm; Width: 33.5mm; Height: 20mm; DC Resistance Max: 0.065Ohm; Inductance: 3.3mH; Rated Current: 4A
footprint WE-LF_Type XH
pins: 1, 2, 3, 4

## 7446926002
designator L?, comment 1.8mH  (value not drawn)
WE-LF THT Common Mode Power Line Choke, Type XH, 1.8mH, 6A, 0.03Ohm; Manufacturer Part Number: 7446926002; Manufacturer: Wurth Elektronik; Case/Size Code: Type XH; Insulation Test Voltage (AC): 1500V; Material: MnZn; Rated Voltage (AC): 250V; Category: Common Mode Chokes; Match Code: WE-LF; ComponentLink1Description: Website Link; ComponentLink1URL: https://www.we-online.com/redexpert/article/7446926002?ad; ComponentLink2Description: Datasheet Link; ComponentLink2URL: https://www.we-online.com/redexpert/spec/7446926002?ad; Mount: Through Hole; Operating Temperature Max: 125°C; Operating Temperature Min: -40°C; Packaging: Tray; Length: 33.5mm; Width: 33.5mm; Height: 20mm; DC Resistance Max: 0.03Ohm; Inductance: 1.8mH; Rated Current: 6A
footprint WE-LF_Type XH
pins: 1, 2, 3, 4

## 74461240004
designator L?, comment 0.4mH  (value not drawn)
WE-LF THT Common Mode Power Line Choke, Type SV, 0.4mH, 3.6A, 0.02Ohm; Manufacturer Part Number: 74461240004; Manufacturer: Wurth Elektronik; Case/Size Code: Type SV; Insulation Test Voltage (AC): 1500V; Material: MnZn; Rated Voltage (AC): 250V; Category: Common Mode Chokes; Match Code: WE-LF; ComponentLink1Description: Website Link; ComponentLink1URL: https://www.we-online.com/redexpert/article/74461240004?ad; ComponentLink2Description: Datasheet Link; ComponentLink2URL: https://www.we-online.com/redexpert/spec/74461240004?ad; Mount: Through Hole; Operating Temperature Max: 125°C; Operating Temperature Min: -40°C; Packaging: Tray; Length: 18.5mm; Width: 13.5mm; Height: 20.5mm; DC Resistance Max: 0.02Ohm; Inductance: 0.4mH; Rated Current: 3.6A
footprint WE-LF_Type SV
pins: 1, 2, 3, 4

## 74462250007
designator L?, comment 0.7mH  (value not drawn)
WE-LF THT Common Mode Power Line Choke, Type MV, 0.7mH, 4.7A, 0.02Ohm; Manufacturer Part Number: 74462250007; Manufacturer: Wurth Elektronik; Case/Size Code: Type MV; Insulation Test Voltage (AC): 1500V; Material: MnZn; Rated Voltage (AC): 250V; Category: Common Mode Chokes; Match Code: WE-LF; ComponentLink1Description: Website Link; ComponentLink1URL: https://www.we-online.com/redexpert/article/74462250007?ad; ComponentLink2Description: Datasheet Link; ComponentLink2URL: https://www.we-online.com/redexpert/spec/74462250007?ad; Mount: Through Hole; Operating Temperature Max: 125°C; Operating Temperature Min: -40°C; Packaging: Tray; Length: 23.5mm; Width: 16mm; Height: 25.5mm; DC Resistance Max: 0.02Ohm; Inductance: 0.7mH; Rated Current: 4.7A
footprint WE-LF_Type MV
pins: 1, 2, 3, 4

## 74466240007
designator L?, comment 0.7mH  (value not drawn)
WE-LF THT Common Mode Power Line Choke, Type SH, 0.7mH, 4A, 0.027Ohm; Manufacturer Part Number: 74466240007; Manufacturer: Wurth Elektronik; Case/Size Code: Type SH; Insulation Test Voltage (AC): 1500V; Material: MnZn; Rated Voltage (AC): 250V; Category: Common Mode Chokes; Match Code: WE-LF; ComponentLink1Description: Website Link; ComponentLink1URL: https://www.we-online.com/redexpert/article/74466240007?ad; ComponentLink2Description: Datasheet Link; ComponentLink2URL: https://www.we-online.com/redexpert/spec/74466240007?ad; Mount: Through Hole; Operating Temperature Max: 125°C; Operating Temperature Min: -40°C; Packaging: Tray; Length: 18mm; Width: 18mm; Height: 13mm; DC Resistance Max: 0.027Ohm; Inductance: 0.7mH; Rated Current: 4A
footprint WE-LF_Type SH
pins: 1, 2, 3, 4